# Altium footprint library IGBT_modul_connector.PcbLib: 1 footprints
Each footprint in its own frame and in the unit in brackets; x right, y up, seen from the top. Pads: shape width x height; smd on the part's side, far side on the other; paste and mask are expansions set on the pad; w line width, h text height; cw(c..) or ccw(c..) is an arc to the next point about the centre after c.
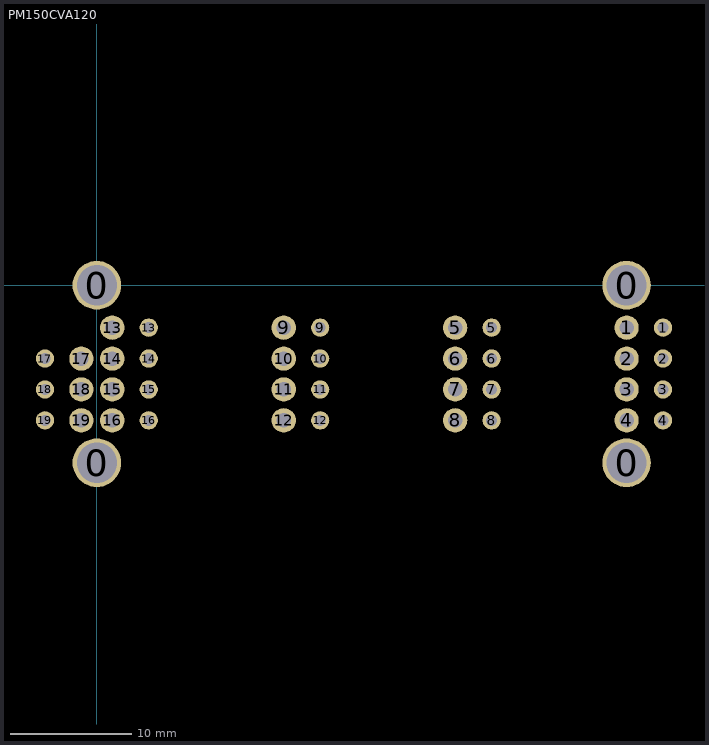
[diagram p0: the footprint, top view; thin cyan lines are the x and y axes]

## PM150CVA120 [mm] "Mitsubishi"
pads (42):
  round 4 hole 3.3: 0(0,-14.6) 0(0,0) 0(43.57,-14.6) 0(43.57,0)
  round 2 hole 1.2: 1(43.57,-3.49) 2(43.57,-6.03) 3(43.57,-8.57) 4(43.57,-11.11) 5(29.47,-3.49) 6(29.47,-6.03) 7(29.47,-8.57) 8(29.47,-11.11) 9(15.37,-3.49) 10(15.37,-6.03) 11(15.37,-8.57) 12(15.37,-11.11) 13(1.27,-3.49) 14(1.27,-6.03) 15(1.27,-8.57) 16(1.27,-11.11) 17(-1.27,-6.03) 18(-1.27,-8.57) 19(-1.27,-11.11)
  round 1.5 hole 0.9: 1(46.57,-3.49) 2(46.57,-6.03) 3(46.57,-8.57) 4(46.57,-11.11) 5(32.47,-3.49) 6(32.47,-6.03) 7(32.47,-8.57) 8(32.47,-11.11) 9(18.37,-3.49) 10(18.37,-6.03) 11(18.37,-8.57) 12(18.37,-11.11) 13(4.27,-3.49) 14(4.27,-6.03) 15(4.27,-8.57) 16(4.27,-11.11) 17(-4.27,-6.03) 18(-4.27,-8.57) 19(-4.27,-11.11)
3D body: height 4.96, standoff -3.04, extent 42.021,-12.356 49.521,-1.956
3D body: height 4.96, standoff -3.04, extent 27.924,-12.381 35.424,-1.981
3D body: height 4.96, standoff -3.04, extent 13.852,-12.381 21.352,-1.981
3D body: height 5, standoff -3, extent -4.996,-12.399 5.004,-2.159